# Altium footprint library unspecified.PcbLib: 1 footprints
Each footprint in its own frame and in the unit in brackets; x right, y up, seen from the top. Pads: shape width x height; smd on the part's side, far side on the other; paste and mask are expansions set on the pad; w line width, h text height; cw(c..) or ccw(c..) is an arc to the next point about the centre after c.
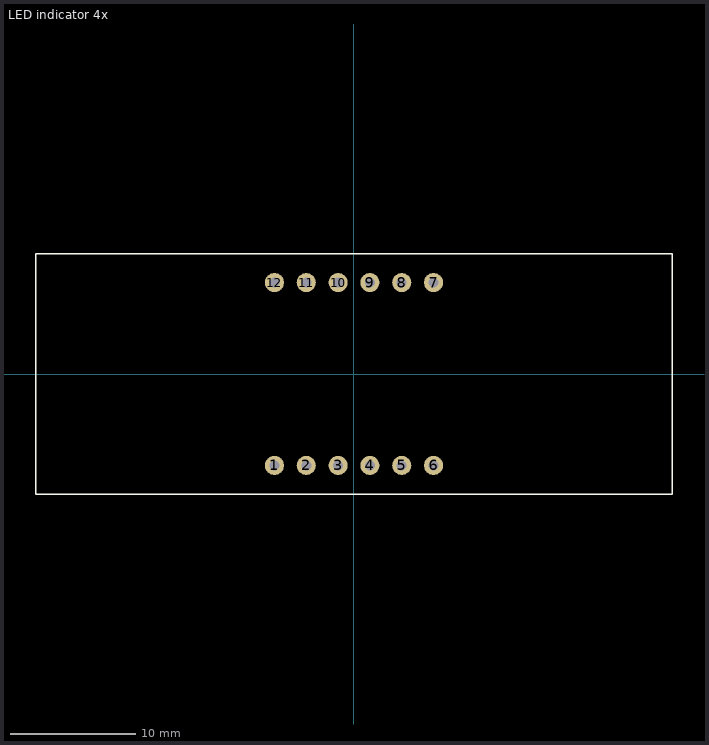
[diagram p0: the footprint, top view; thin cyan lines are the x and y axes]

## LED indicator 4x [mil]
pads (12):
  round 60 hole 31.5: 1(-250,-287.4) 2(-150,-287.4) 3(-50,-287.4) 4(50,-287.4) 5(150,-287.4) 6(250,-287.4) 7(250,287.4) 8(150,287.4) 9(50,287.4) 10(-50,287.4) 11(-150,287.4) 12(-250,287.4)
Top Overlay:
  lines w5: -1000,-377.95 1000,-377.95 1000,377.95 -1000,377.95 -1000,-344.49 -1000,-377.95
3D body "User Library-C-564 (7 segment 4 digit LED display).sldprt": height 314.96, standoff -244.09, extent -992.12,-374.02 992.13,374.02